# EAGLE library part MI0283QT (library we-opto)
Multi-Inno MI0283QT TFT 2.8" (240x320) with Ilitek ILI9341
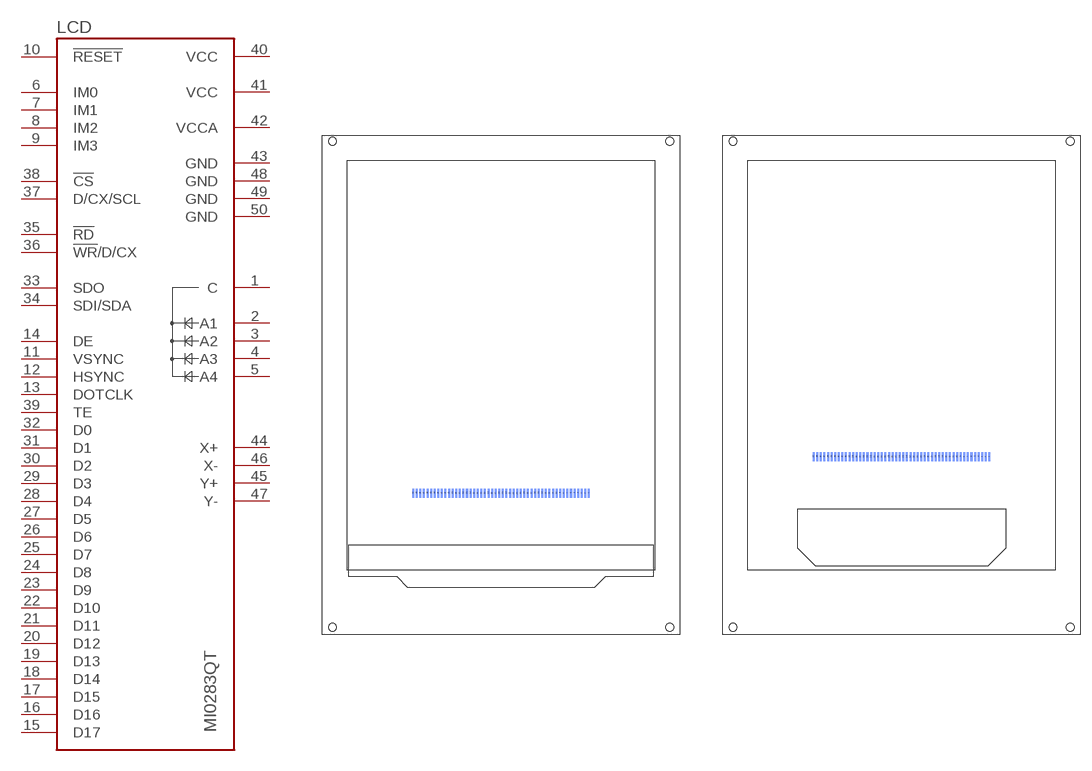
[diagram p0: symbol with the pads of MI0283QT9; footprints MI0283QT9, MI0283QT11]

Designator prefix LCD

## MI0283QT-9  [MI0283QT9]
1  C  pwr
2  A1  pwr
3  A2  pwr
4  A3  pwr
5  A4  pwr
6  IM0  in
7  IM1  in
8  IM2  in
9  IM3  in
10  !RESET  in
11  VSYNC  in
12  HSYNC  in
13  DOTCLK  in
14  DE  in
15  D17  in
16  D16  in
17  D15  in
18  D14  in
19  D13  in
20  D12  in
21  D11  in
22  D10  in
23  D9  in
24  D8  in
25  D7  in
26  D6  in
27  D5  in
28  D4  in
29  D3  in
30  D2  in
31  D1  in
32  D0  in
33  SDO
34  SDI/SDA
35  !RD  in
36  !WR!/D/CX  in
37  D/CX/SCL
38  !CS  in
39  TE  out
40  VCC  pwr
41  VCC  pwr
42  VCCA  pwr
43  GND  pwr
44  X+  pas
45  Y+  pas
46  X-  pas
47  Y-  pas
48  GND  pwr
49  GND  pwr
50  GND  pwr

## MI0283QT-11  [MI0283QT11]
Pads as for MI0283QT9

## Footprint MI0283QT9 (pad centres in mm)
smd 0.279 x 1.27 bottom: 1 12.25,19.683; 2 11.75,19.683; 3 11.25,19.683; 4 10.75,19.683; 5 10.25,19.683; 6 9.75,19.683; 7 9.25,19.683; 8 8.75,19.683; 9 8.25,19.683; 10 7.75,19.683; 11 7.25,19.683; 12 6.75,19.683; 13 6.25,19.683; 14 5.75,19.683; 15 5.25,19.683; 16 4.75,19.683; 17 4.25,19.683; 18 3.75,19.683; 19 3.25,19.683; 20 2.75,19.683; 21 2.25,19.683; 22 1.75,19.683; 23 1.25,19.683; 24 0.75,19.683; 25 0.25,19.683; 26 -0.25,19.683; 27 -0.75,19.683; 28 -1.25,19.683; 29 -1.75,19.683; 30 -2.25,19.683; 31 -2.75,19.683; 32 -3.25,19.683; 33 -3.75,19.683; 34 -4.25,19.683; 35 -4.75,19.683; 36 -5.25,19.683; 37 -5.75,19.683; 38 -6.25,19.683; 39 -6.75,19.683; 40 -7.25,19.683; 41 -7.75,19.683; 42 -8.25,19.683; 43 -8.75,19.683; 44 -9.25,19.683; 45 -9.75,19.683; 46 -10.25,19.683; 47 -10.75,19.683; 48 -11.25,19.683; 49 -11.75,19.683; 50 -12.25,19.683
hole 1.1 at 23.54,1
hole 1.1 at -23.5,1
hole 1.1 at 23.54,68.75
hole 1.1 at -23.5,68.75

## Footprint MI0283QT11 (pad centres in mm)
smd 0.279 x 1.27 bottom: 1 12.25,24.762; 2 11.75,24.762; 3 11.25,24.762; 4 10.75,24.762; 5 10.25,24.762; 6 9.75,24.762; 7 9.25,24.762; 8 8.75,24.762; 9 8.25,24.762; 10 7.75,24.762; 11 7.25,24.762; 12 6.75,24.762; 13 6.25,24.762; 14 5.75,24.762; 15 5.25,24.762; 16 4.75,24.762; 17 4.25,24.762; 18 3.75,24.762; 19 3.25,24.762; 20 2.75,24.762; 21 2.25,24.762; 22 1.75,24.762; 23 1.25,24.762; 24 0.75,24.762; 25 0.25,24.762; 26 -0.25,24.762; 27 -0.75,24.762; 28 -1.25,24.762; 29 -1.75,24.762; 30 -2.25,24.762; 31 -2.75,24.762; 32 -3.25,24.762; 33 -3.75,24.762; 34 -4.25,24.762; 35 -4.75,24.762; 36 -5.25,24.762; 37 -5.75,24.762; 38 -6.25,24.762; 39 -6.75,24.762; 40 -7.25,24.762; 41 -7.75,24.762; 42 -8.25,24.762; 43 -8.75,24.762; 44 -9.25,24.762; 45 -9.75,24.762; 46 -10.25,24.762; 47 -10.75,24.762; 48 -11.25,24.762; 49 -11.75,24.762; 50 -12.25,24.762
hole 1.1 at 23.54,1
hole 1.1 at -23.5,1
hole 1.1 at 23.54,68.75
hole 1.1 at -23.5,68.75